# EAGLE library part 68711714022 (library Eagle_FPC_CONNECTOR_AND_FFC_CAB (rev18c))
WR-FPC 0.5mm SMT ZIF Horizontal Top Contact, 17 Pins=>Code : Con_FPC_ZIF_0.50_68711714022 <http://katalog.we-online.de/media/images/eican/Con_FPC_ZIF_0.50_6871xx14022_pf2.jpg> Details see: http://katalog.we-online.de/en/em/687_1xx_140_22 Created 2014-07-09, Karrer Zheng 2014 (C) Würth Elektronik
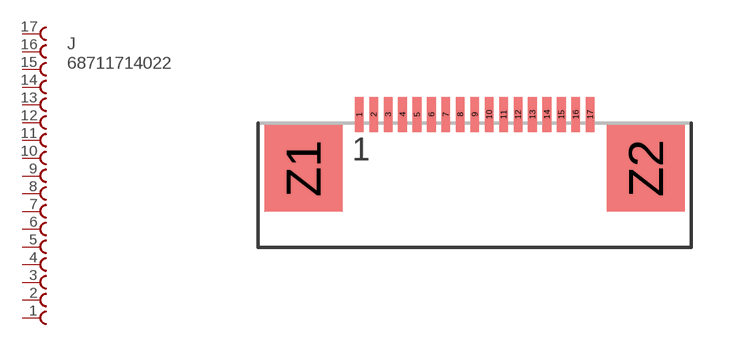
[diagram p21: symbol with the pads of 68711714022; footprint 68711714022]

Designator prefix J

## 68711714022  [68711714022]
1  17  pas
2  16  pas
3  15  pas
4  14  pas
5  13  pas
6  12  pas
7  11  pas
8  10  pas
9  9  pas
10  8  pas
11  7  pas
12  6  pas
13  5  pas
14  4  pas
15  3  pas
16  2  pas
17  1  pas

## Footprint 68711714022 (pad centres in mm)
WR-FPC 0.5mm SMT ZIF Horizontal Top Contact, 17 Pins
smd 0.3 x 1.2: 1 -4.25,1.86; 2 -3.75,1.86; 3 -3.25,1.86; 4 -2.75,1.86; 5 -2.25,1.86; 6 -1.75,1.86; 7 -1.25,1.86; 8 -0.75,1.86; 9 -0.25,1.86; 10 0.25,1.86; 11 0.75,1.86; 12 1.25,1.86; 13 1.75,1.86; 14 2.25,1.86; 15 2.75,1.86; 16 3.25,1.86; 17 3.75,1.86
smd 2.7 x 3: Z1 -6.18,0; Z2 5.68,0